# Altium schematic symbol library Oasis_Heater_Testing.SchLib: 5 symbols
Pins are listed as number, name and electrical type; pins without a type are passive.

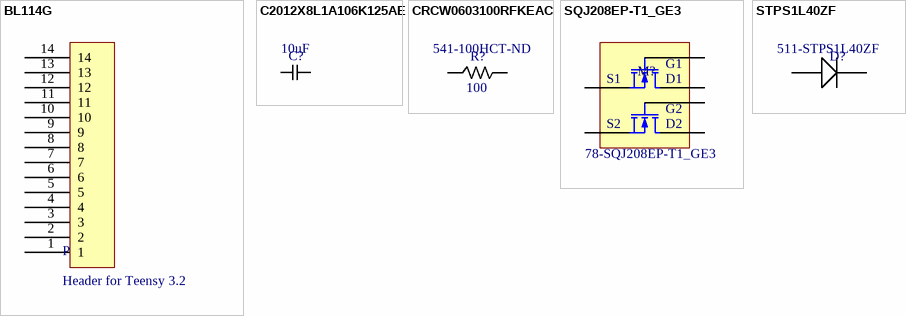
[diagram p0: symbols BL114G to STPS1L40ZF]

## BL114G
designator P, comment Header for Teensy 3.2
14-pin header, to be used with Teensy 3.2
footprint BL114G (Connector; Header; 14 Position)
pins: 1, 2, 3, 4, 5, 6, 7, 8, 9, 10, 11, 12, 13, 14

## C2012X8L1A106K125AE
designator C?, comment value 10uF  (hidden comment: 10uF Capacitor)
10 uF Capacitor; Supplier Part Number: C2012X8L1A106K125AE
footprint IMPERIAL0805_CAPACITOR (Chip Capacitor, 2-Leads, Body 2.13x1.27mm, IPC Medium Density)
simulation model CAP (Default semiconductor capacitor)
pins: 1, 2

## CRCW0603100RFKEAC
designator R?  value 100  Supplier Part Number 1: 541-100HCT-ND  (hidden comment: *)
100 Ohm Resistor; Supplier 1: Digi-Key
footprint Imperial0603_RES (Imperial 0603 resistor footprint)
simulation model RES (Default semiconductor resistor)
pins: 1, 2

## SQJ208EP-T1_GE3
designator M?, comment Supplier Part Number 1: 78-SQJ208EP-T1_GE3  (hidden comment: NPN MOSFET)
Two NPN Power Transistors for heater power control; Supplier 1: Mouser
footprint PowerPAK SO-8L DUAL ASYMMETRIC
pins: 1 S1, 2 G1, 3 S2, 4 G2, 5 D1, 6 D2

## STPS1L40ZF
designator D?  Supplier Part Number 1: 511-STPS1L40ZF  (hidden comment: STPS1L40ZF)
1A Schottky Diode; Supplier 1: Mouser
footprint *SODFL3718X108N; pin to pad 1>C 2>A
pins: 1 cathode, 2 anode